# Altium schematic symbol library Misc.SchLib: 2 symbols
Pins are listed as number, name and electrical type; pins without a type are passive.

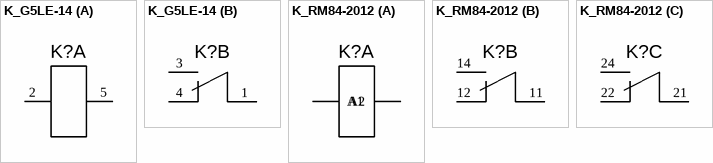
[diagram p0: symbols K_G5LE-14 to K_RM84-2012]

## K_G5LE-14
designator K?
part A pins: 2, 5
part B pins: 1, 3, 4

## K_RM84-2012
designator K?
part A pins: 1 A1, 2 A2
part B pins: 11, 12, 14
part C pins: 21, 22, 24